# Altium schematic symbol library usomiq-base.SchLib: 31 symbols
Pins are listed as number, name and electrical type; pins without a type are passive.

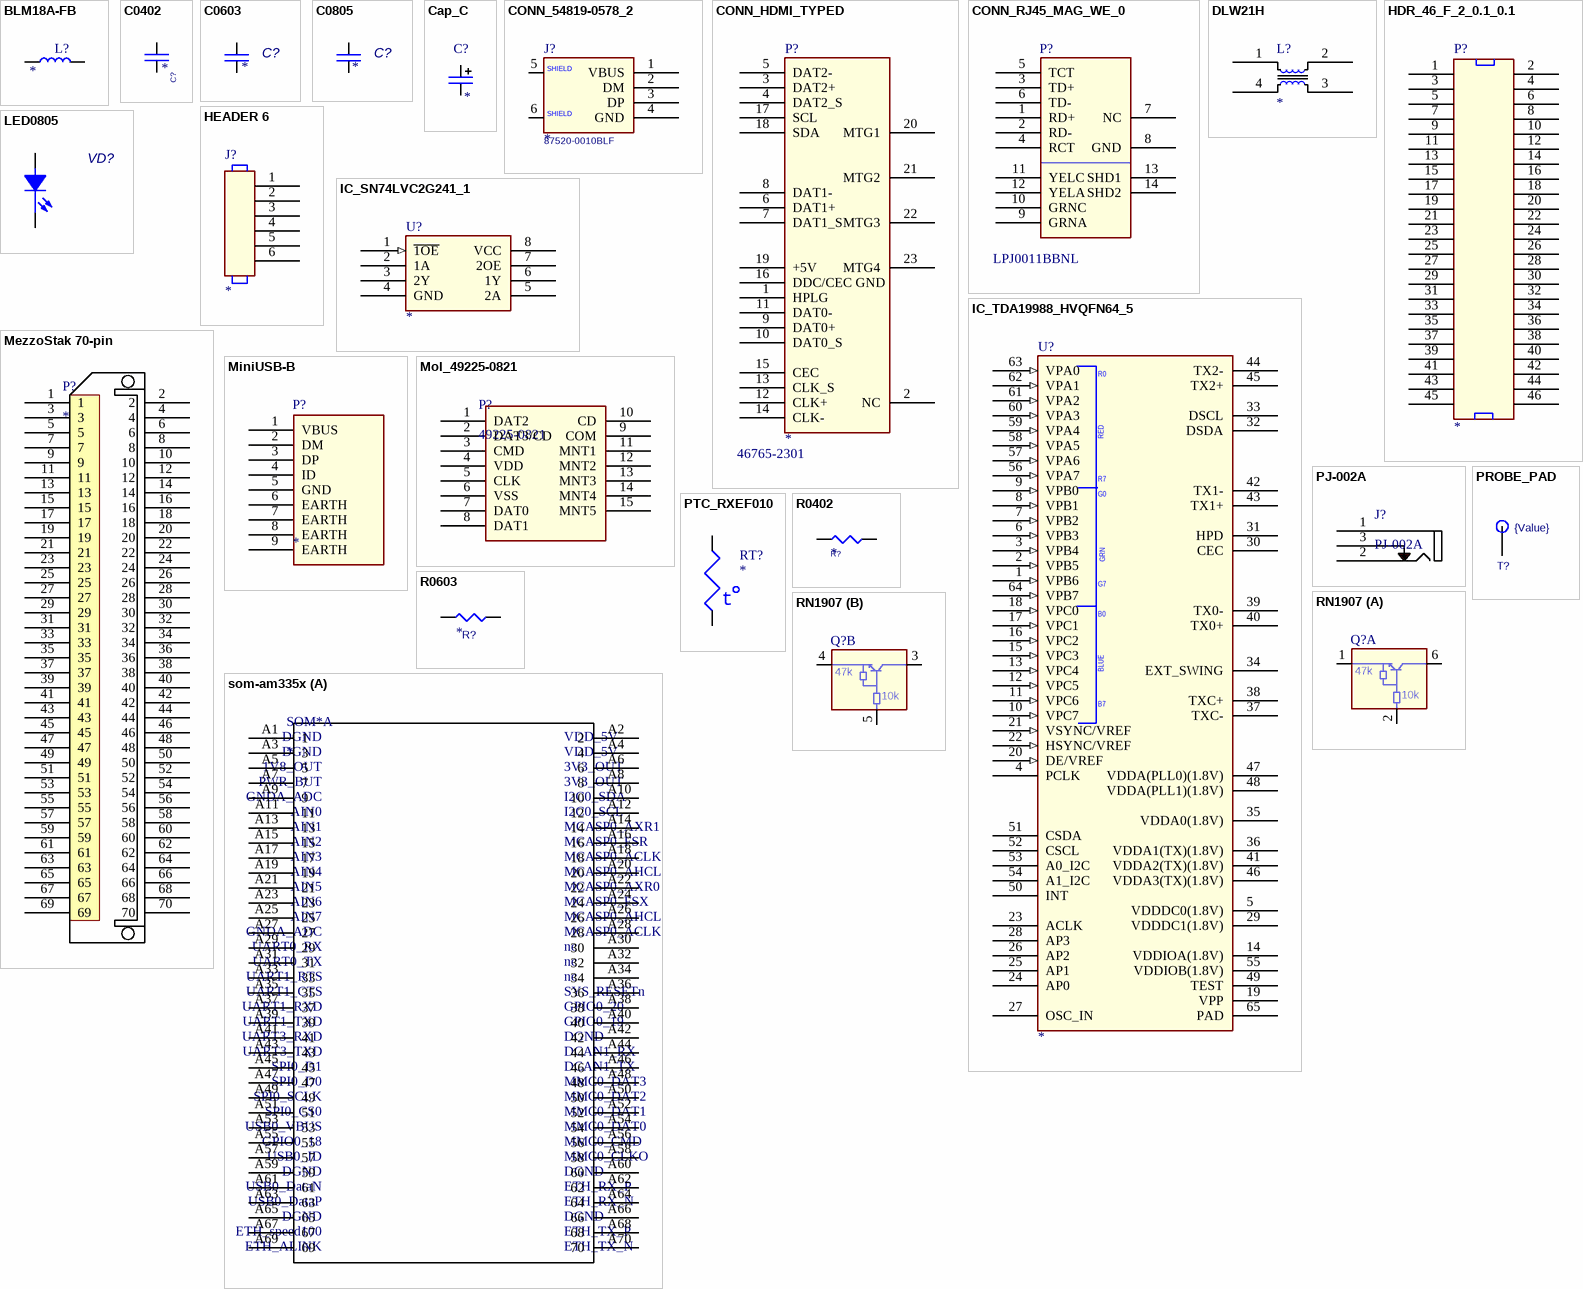
[diagram p0: symbols BLM18A-FB to som-am335x]

## BLM18A-FB
designator L?
Chip EMIFILr Inductor Type; Manufacturer: Murata; Man P/N: *
footprint CHIP0603
pins: 1, 2

## C0402
designator C?  (value not drawn)
P/N: *; Value: *
footprint CC1005-0402 (Chip Capacitor, 2-Leads, Body 1,0x0,5mm, IPC Medium Density)
pins: 1, 2

## C0603
designator C?
C0603; P/N: *; Value: *
footprint CC1608-0603 (Chip Capacitor, 2-Leads, Body 1,6x0,8mm, IPC Medium Density)
pins: 1, 2

## C0805
designator C?
C0805; P/N: *; Value: *
footprint CC2012-0805 (Chip Capacitor, 2-Leads, Body 2,0x1,25mm, IPC Medium Density)
pins: 1, 2

## Cap_C
designator C?
Tantalum Capacitor Case C; P/N: *; Value: *
footprint Cap_C (Capacitor, SM Tantalum; Body 6.0 x 3.2 mm (LxW typ))
pins: 1, 2

## CONN_54819-0578_2
designator J?  P/N: 87520-0010BLF
USB Type A Connectors; Mfr: FCI
footprint USB2.5-2H4C (Connector; USB1.1, Type A, Thru-Hole; 4 Position; Right Angle)
pins: 1 VBUS, 2 DM, 3 DP, 4 GND, 5 SHELD1, 6 PAD4
text: SHIELD

## CONN_HDMI_TYPED
designator P?  P/N: 46765-2301
Micro HDMI Connector, R/A; Mfr: Molex
footprint hdmi-smt-w-flange
pins: 1 HPLG, 2 NC, 3 DAT2+, 4 DAT2_S, 5 DAT2-, 6 DAT1+, 7 DAT1_S, 8 DAT1-, 9 DAT0+, 10 DAT0_S, 11 DAT0-, 12 CLK+, 13 CLK_S, 14 CLK-, 15 CEC, 16 DDC/CEC GND, 17 SCL, 18 SDA, 19 +5V, 20 MTG1 (power), 21 MTG2 (power), 22 MTG3 (power), 23 MTG4 (power)

## CONN_RJ45_MAG_WE_0
designator P?  P/N: LPJ0011BBNL  (hidden comment: *)
RJ-45 10/100 W/Magnetics; Mfr: Link PP; P/N-2: Wurth 7499011212
footprint TRJ0011ABNL (TRJ0011ABNL RJ-45 magnet)
pins: 1 RD+, 2 RD-, 3 TD+, 4 RCT, 5 TCT, 6 TD-, 7 NC, 8 GND, 9 GRNA, 10 GRNC, 11 YELC, 12 YELA, 13 SHD1, 14 SHD2

## DLW21H
designator L?
Low profile wire-wound common choke coil; Manufacturer: Murata; Man P/N: DLW21HN900SQ2
footprint DLW21H (DLW21H Series Murata)
pins: 1, 2, 3, 4

## HDR_46_F_2_0.1_0.1
designator P?
NN HEADER FMAL 46PS.1" DL GOLD; Mfr: major league electronics; P/N: SSHS-123-D-02-GT-LF
footprint DIP46
pins: 1, 2 26, 3 2, 4 27, 5 3, 6 28, 7 4, 8 29, 9 5, 10 30, 11 6, 12 31, 13 7, 14 32, 15 8, 16 33, 17 9, 18 34, 19 10, 20 35, 21 11, 22 36, 23 12, 24 37, 25 13, 26 38, 27 14, 28 39, 29 15, 30 40, 31 16, 32 41, 33 17, 34 42, 35 18, 36 43, 37 19, 38 44, 39 20, 40 45, 41 21, 42 46, 43 22, 44 47, 45 23, 46 48

## HEADER 6
designator J?
CONN HEADER 6POS, VERTICAL,  .100 STR TIN; Mfr: FCI; P/N: 68000-406HLF
footprint DIP6
pins: 1, 2, 3, 4, 5, 6

## IC_SN74LVC2G241_1
designator U?
Dual Buffer/Driver With 3-State Outputs; Mfr: TI; P/N: SN74LVC2G241DCU
footprint SOP127P600-8N
pins: 1 ~{1OE} (in), 2 1A, 3 2Y, 4 GND (power), 5 2A, 6 1Y, 7 2OE, 8 VCC (power)

## IC_TDA19988_HVQFN64_5
designator U?
IC HDMI INTERFACE HVQFN64; Mfr: NXP; P/N: TDA19988BHN/C1,551
pins: 1 VPB6 (in), 2 VPB5 (in), 3 VPB4 (in), 4 PCLK, 5 VDDDC0(1.8V) (power), 6 VPB3 (in), 7 VPB2 (in), 8 VPB1 (in), 9 VPB0 (in), 10 VPC7 (in), 11 VPC6 (in), 12 VPC5 (in), 13 VPC4 (in), 14 VDDIOA(1.8V) (power), 15 VPC3 (in), 16 VPC2 (in), 17 VPC1 (in), 18 VPC0 (in), 19 VPP (power), 20 DE/VREF (in), 21 VSYNC/VREF (in), 22 HSYNC/VREF (in), 23 ACLK, 24 AP0, 25 AP1, 26 AP2, 27 OSC_IN, 28 AP3, 29 VDDDC1(1.8V) (power), 30 CEC, 31 HPD, 32 DSDA, 33 DSCL, 34 EXT_SWING, 35 VDDA0(1.8V) (power), 36 VDDA1(TX)(1.8V) (power), 37 TXC-, 38 TXC+, 39 TX0-, 40 TX0+, 41 VDDA2(TX)(1.8V) (power), 42 TX1-, 43 TX1+, 44 TX2-, 45 TX2+, 46 VDDA3(TX)(1.8V) (power), 47 VDDA(PLL0)(1.8V) (power), 48 VDDA(PLL1)(1.8V) (power), 49 TEST (power), 50 INT, 51 CSDA, 52 CSCL, 53 A0_I2C (power), 54 A1_I2C (power), 55 VDDIOB(1.8V), 56 VPA7 (in), 57 VPA6 (in), 58 VPA5 (in), 59 VPA4 (in), 60 VPA3 (in), 61 VPA2 (in), 62 VPA1 (in), 63 VPA0 (in), 64 VPB7 (in), 65 PAD
text: R0; RED; R7; G0; GRN; G7; B0; BLUE; B7

## LED0805
designator VD?  (value not drawn)
LED 0805; Value: *
footprint LED0805 (Chip LED, 2-Leads, Body 2,0x1,3mm, IPC Medium Density)
pins: 1 A, 2 C

## MezzoStak 70-pin
designator P?
MezzoStak 0.5 MM Mezzanine Connectors; Mfr: FCI; P/N: 10106813-071112LF
footprint 10106813-071112LF
pins: 1, 2, 3, 4, 5, 6, 7, 8, 9, 10, 11, 12, 13, 14, 15, 16, 17, 18, 19, 20, 21, 22, 23, 24, 25, 26, 27, 28, 29, 30, 31, 32, 33, 34, 35, 36, 37, 38, 39, 40, 41, 42, 43, 44, 45, 46, 47, 48, 49, 50, 51, 52, 53, 54, 55, 56, 57, 58, 59, 60, 61, 62, 63, 64, 65, 66, 67, 68, 69, 70

## MiniUSB-B
designator P?
Mini USB Type B CONNECTOR; Mfr: Hirose; P/N: UX60SC-MB-5ST(80)
footprint MINI-USB-B5 SMT
pins: 1 VBUS (power), 2 DM, 3 DP, 4 ID, 5 GND (power), 6 EARTH, 7 EARTH, 8 EARTH, 9 EARTH

## Mol_49225-0821
designator P?, comment 49225-0821
Connector for microSD™ Card (Push-push Type); Manufacturer: Molex; Man P/N: 49225-0821
footprint SDCard (molex 0492250821)
pins: 1 DAT2, 2 DAT3/CD, 3 CMD, 4 VDD (power), 5 CLK, 6 VSS (power), 7 DAT0, 8 DAT1, 9 COM, 10 CD, 11 MNT1, 12 MNT2, 13 MNT3, 14 MNT4, 15 MNT5

## PJ-002A
designator J?
DC POWER JACK; Manufacturer: CIU Inc; Vendor: Digi-key; Alternative P/N: DJK-02A; Man P/N: PJ-002A
footprint PJ-002A (DC POWER JACK)
pins: 1 GND, 2 RIGHT, 3 LEFT

## PROBE_PAD
designator T?  value {Value}  (hidden comment: *)
PROBE_PAD
footprint PAD
pins: 1

## PTC_RXEF010
designator RT?
PolySwitch Resettable Fuses; Mfr: TE Connectivity / Raychem; P/N: RXEF010
footprint polysw200-5638-310
pins: 1, 2
text: t

## R0402
designator R?  (value not drawn)
P/N: *; Value: *
footprint RESC1005X40N (Chip Resistor, EIA 0402, Metric 1005, Body 1.0x0.5mm, IPC Medium Density)
pins: 1, 2

## R0603
designator R?
R0603; P/N: *; Value: *
footprint RESC1608X55N (Chip Resistor, EIA 0603, Metric 1608, Body 1.6x0.8mm, IPC Medium Density)
pins: 1, 2

## RN1907
designator Q?  (value not drawn)
Transistor Silicon NPN; Mfr: Panasonic; P/N: DMC564040R
footprint SOT363-6L (SOT363, 6-Leads, Body 2x1.3mm, Pitch 0.65mm, Lead Span 2.1mm, IPC High Density)
part A pins: 1 4, 2 5, 6 3
part B pins: 3, 4, 5
part A text: 47k; 10k
part B text: 47k; 10k

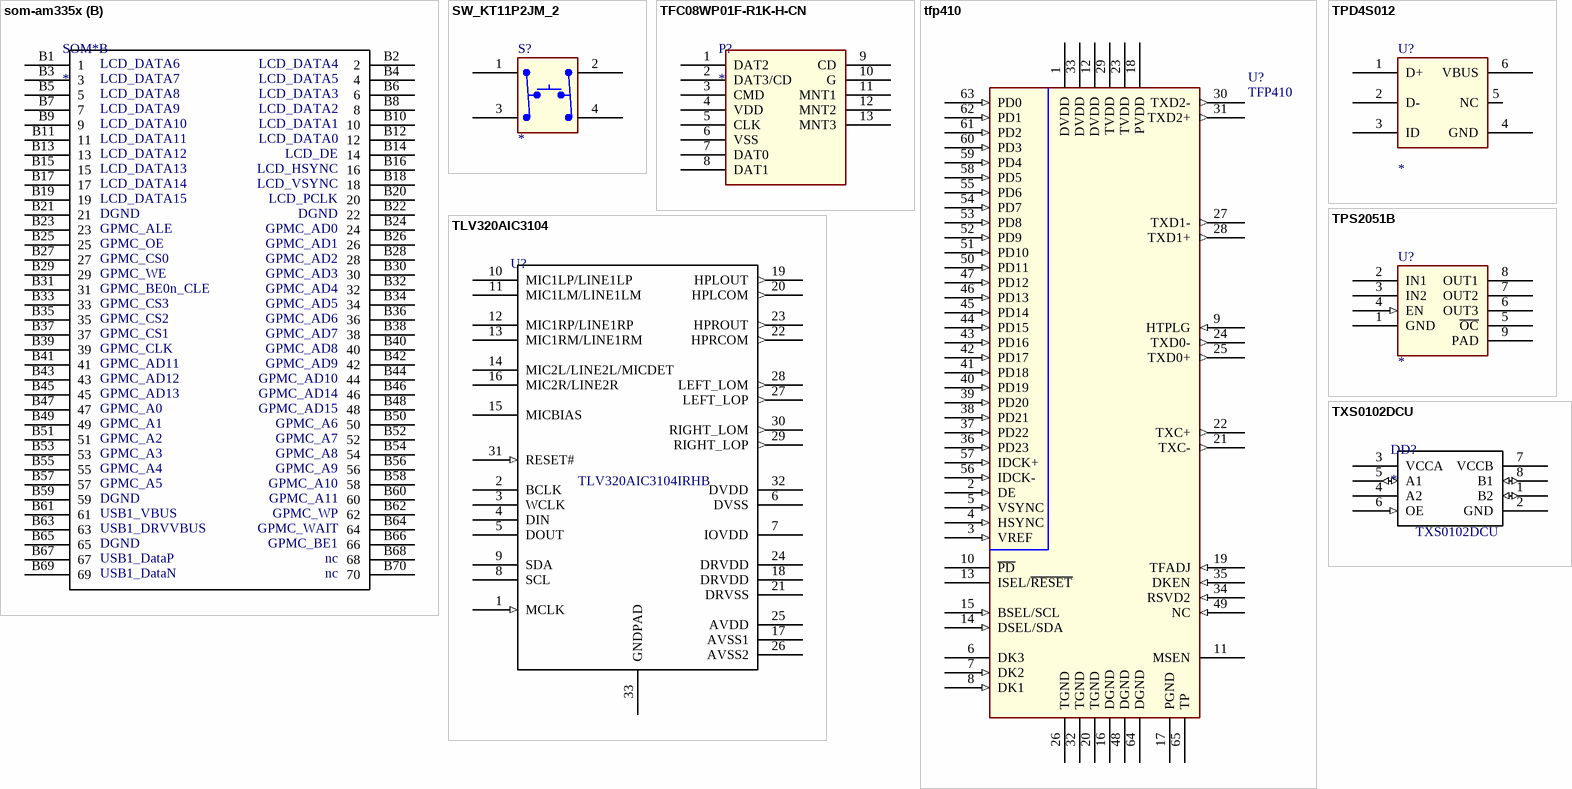
[diagram p1: symbols som-am335x to TXS0102DCU]

## som-am335x
designator SOM*
footprint am3359_module-sockets
part A pins: A1 1, A2 2, A3 3, A4 4, A5 5, A6 6, A7 7, A8 8, A9 9, A10 10, A11 11, A12 12, A13 13, A14 14, A15 15, A16 16, A17 17, A18 18, A19 19, A20 20, A21 21, A22 22, A23 23, A24 24, A25 25, A26 26, A27 27, A28 28, A29 29, A30 30, A31 31, A32 32, A33 33, A34 34, A35 35, A36 36, A37 37, A38 38, A39 39, A40 40, A41 41, A42 42, A43 43, A44 44, A45 45, A46 46, A47 47, A48 48, A49 49, A50 50, A51 51, A52 52, A53 53, A54 54, A55 55, A56 56, A57 57, A58 58, A59 59, A60 60, A61 61, A62 62, A63 63, A64 64, A65 65, A66 66, A67 67, A68 68, A69 69, A70 70
part B pins: B1 1, B2 2, B3 3, B4 4, B5 5, B6 6, B7 7, B8 8, B9 9, B10 10, B11 11, B12 12, B13 13, B14 14, B15 15, B16 16, B17 17, B18 18, B19 19, B20 20, B21 21, B22 22, B23 23, B24 24, B25 25, B26 26, B27 27, B28 28, B29 29, B30 30, B31 31, B32 32, B33 33, B34 34, B35 35, B36 36, B37 37, B38 38, B39 39, B40 40, B41 41, B42 42, B43 43, B44 44, B45 45, B46 46, B47 47, B48 48, B49 49, B50 50, B51 51, B52 52, B53 53, B54 54, B55 55, B56 56, B57 57, B58 58, B59 59, B60 60, B61 61, B62 62, B63 63, B64 64, B65 65, B66 66, B67 67, B68 68, B69 69, B70 70
part A text: DGND; VDD_5V; 1V8_OUT; 3V3_OUT; PWR_BUT; GNDA_ADC; I2C0_SDA; AIN0; I2C0_SCL; AIN1; MCASP0_AXR1; AIN2; MCASP0_FSR; AIN3; MCASP0_ACLKR; AIN4; MCASP0_AHCLKR; AIN5; MCASP0_AXR0; AIN6; MCASP0_FSX; AIN7; MCASP0_AHCLKX; MCASP0_ACLKX; UART0_RX; nc; UART0_TX; UART1_RTS; UART1_CTS; SYS_RESETn; UART1_RXD; GPIO0_20; UART1_TXD; GPIO0_19; UART3_RXD; UART3_TXD; DCAN1_RX; SPI0_D1; DCAN1_TX; SPI0_D0; MMC0_DAT3; SPI0_SCLK; MMC0_DAT2; SPI0_CS0; MMC0_DAT1; USB0_VBUS; MMC0_DAT0; GPIO0_18; MMC0_CMD; USB0_ID; MMC0_CLKO; USB0_DataN; ETH_RX_P; USB0_DataP; ETH_RX_N; ETH_speed100; ETH_TX_P; ETH_ALINK; ETH_TX_N
part B text: LCD_DATA6; LCD_DATA4; LCD_DATA7; LCD_DATA5; LCD_DATA8; LCD_DATA3; LCD_DATA9; LCD_DATA2; LCD_DATA10; LCD_DATA1; LCD_DATA11; LCD_DATA0; LCD_DATA12; LCD_DE; LCD_DATA13; LCD_HSYNC; LCD_DATA14; LCD_VSYNC; LCD_DATA15; LCD_PCLK; DGND; GPMC_ALE; GPMC_AD0; GPMC_OE; GPMC_AD1; GPMC_CS0; GPMC_AD2; GPMC_WE; GPMC_AD3; GPMC_BE0n_CLE; GPMC_AD4; GPMC_CS3; GPMC_AD5; GPMC_CS2; GPMC_AD6; GPMC_CS1; GPMC_AD7; GPMC_CLK; GPMC_AD8; GPMC_AD11; GPMC_AD9; GPMC_AD12; GPMC_AD10; GPMC_AD13; GPMC_AD14; GPMC_A0; GPMC_AD15; GPMC_A1; GPMC_A6; GPMC_A2; GPMC_A7; GPMC_A3; GPMC_A8; GPMC_A4; GPMC_A9; GPMC_A5; GPMC_A10; GPMC_A11; USB1_VBUS; GPMC_WP; USB1_DRVVBUS; GPMC_WAIT; GPMC_BE1; USB1_DataP; nc; USB1_DataN

## SW_KT11P2JM_2
designator S?
SMD button; Mfr: C&K Components; P/N: KMR231GLFS
footprint KMR231GLFS (Tactile Switches)
pins: 1 A1, 2 B1, 3 A2, 4 B2

## TFC08WP01F-R1K-H-CN
designator P?
Connector for microSD™ Card (Push-push Type); Mfr: AUK Contractors Co, LTD; P/N: TFC08WP01F-R1K-H-CN
footprint TFC08WP01F-A-R1K-H
pins: 1 DAT2, 2 DAT3/CD, 3 CMD, 4 VDD (power), 5 CLK, 6 VSS (power), 7 DAT0, 8 DAT1, 9 CD, 10 G, 11 MNT1, 12 MNT2, 13 MNT3

## tfp410
designator U?, comment TFP410
TI PanelBus digital transmitter; Man P/N: TFP410PAP; Manufacturer: TI
footprint PQFP64 (64-Pin Quad Flat Pad 0.5 mm Pitch, IPC Low Density)
pins: 1 DVDD (power), 2 DE (in), 3 VREF (in), 4 HSYNC (in), 5 VSYNC (in), 6 DK3, 7 DK2 (in), 8 DK1 (in), 9 HTPLG (in), 10 ~{PD}, 11 MSEN, 12 DVDD (power), 13 ISEL/~{RESET}, 14 DSEL/SDA (in), 15 BSEL/SCL (in), 16 DGND (power), 17 PGND (power), 18 PVDD (power), 19 TFADJ (in), 20 TGND (power), 21 TXC- (out), 22 TXC+ (out), 23 TVDD (power), 24 TXD0- (out), 25 TXD0+ (out), 26 TGND (power), 27 TXD1- (out), 28 TXD1+ (out), 29 TVDD (power), 30 TXD2- (out), 31 TXD2+ (out), 32 TGND (power), 33 DVDD (power), 34 RSVD2 (in), 35 DKEN (in), 36 PD23 (in), 37 PD22 (in), 38 PD21 (in), 39 PD20 (in), 40 PD19 (in), 41 PD18 (in), 42 PD17 (in), 43 PD16 (in), 44 PD15 (in), 45 PD14 (in), 46 PD13 (in), 47 PD12 (in), 48 DGND (power), 49 NC (in), 50 PD11 (in), 51 PD10 (in), 52 PD9 (in), 53 PD8 (in), 54 PD7 (in), 55 PD6 (in), 56 IDCK- (in), 57 IDCK+ (in), 58 PD5 (in), 59 PD4 (in), 60 PD3 (in), 61 PD2 (in), 62 PD1 (in), 63 PD0 (in), 64 DGND (power), 65 TP (power)

## TLV320AIC3104
designator U?  Man P/N: TLV320AIC3104IRHB  (hidden comment: *)
LOW-POWER STEREO AUDIO CODEC FOR PORTABLE AUDIO/TELEPHONY; Manufacturer: TI
footprint QFN32 (32-Pin Quad Flat No-Lead 0.5 mm Pitch, IPC Medium Density)
pins: 1 MCLK (in), 2 BCLK, 3 WCLK, 4 DIN, 5 DOUT, 6 DVSS (power), 7 IOVDD (power), 8 SCL, 9 SDA, 10 MIC1LP/LINE1LP, 11 MIC1LM/LINE1LM, 12 MIC1RP/LINE1RP, 13 MIC1RM/LINE1RM, 14 MIC2L/LINE2L/MICDET, 15 MICBIAS, 16 MIC2R/LINE2R, 17 AVSS1 (power), 18 DRVDD (power), 19 HPLOUT (out), 20 HPLCOM (out), 21 DRVSS (power), 22 HPRCOM (out), 23 HPROUT (out), 24 DRVDD (power), 25 AVDD (power), 26 AVSS2 (power), 27 LEFT_LOP (out), 28 LEFT_LOM (out), 29 RIGHT_LOP (out), 30 RIGHT_LOM (out), 31 RESET# (in), 32 DVDD (power), 33 GNDPAD (power)

## TPD4S012
designator U?
4-Channel USB ESD Solution with Power Clamp; Mfr: TI; P/N: TPD4S012DRYR
footprint s-puson-n6
pins: 1 D+, 2 D-, 3 ID, 4 GND (power), 5 NC, 6 VBUS (power)

## TPS2051B
designator U?
CURRENT-LIMITED, POWER-DISTRIBUTION SWITCHES; Mfr: TI; P/N: TPS2051BDGN
footprint R-PDSO-G8
pins: 1 GND (power), 2 IN1 (power), 3 IN2 (power), 4 EN (in), 5 ~{OC}, 6 OUT3 (power), 7 OUT2 (power), 8 OUT1 (power), 9 PAD

## TXS0102DCU
designator DD?  Man P/N: TXS0102DCU
2bit Bidirectional voltage translator; Manufacturer: TI; Package: DCU
footprint SOP127P600-8N
pins: 1 B2 (io), 2 GND (power), 3 VCCA (power), 4 A2 (power), 5 A1 (io), 6 OE (in), 7 VCCB (power), 8 B1 (io)